# Altium schematic symbol library ICM-42688-P.SchLib: 1 symbol
Pins are listed as number, name and electrical type; pins without a type are passive.

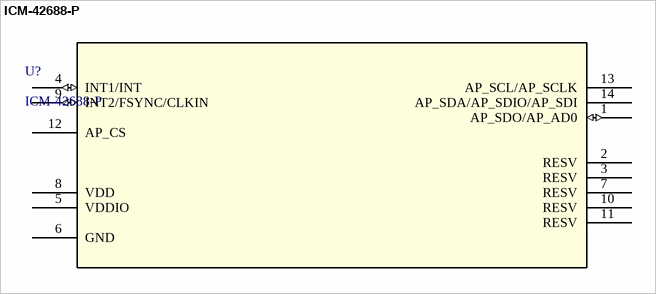
[diagram p0: symbol ICM-42688-P]

## ICM-42688-P
designator U?
Description; Manufacturer_Name: TDK; Type: Motion Sensors; Copyright: Copyright (C) 2025 Ultra Librarian. All rights reserved.; Manufacturer_Part_Number: ICM-42688-P; RefDes: RefDes
footprint LGA14_2P5X3X0P91_TDK
pins: 1 AP_SDO/AP_AD0 (io), 2 RESV, 3 RESV, 4 INT1/INT (io), 5 VDDIO (power), 6 GND (power), 7 RESV, 8 VDD (power), 9 INT2/FSYNC/CLKIN (io), 10 RESV, 11 RESV, 12 AP_CS, 13 AP_SCL/AP_SCLK, 14 AP_SDA/AP_SDIO/AP_SDI